# EAGLE library part MAX4377 (library keves)
IC AMP CURRENT DUAL 8-SOIC
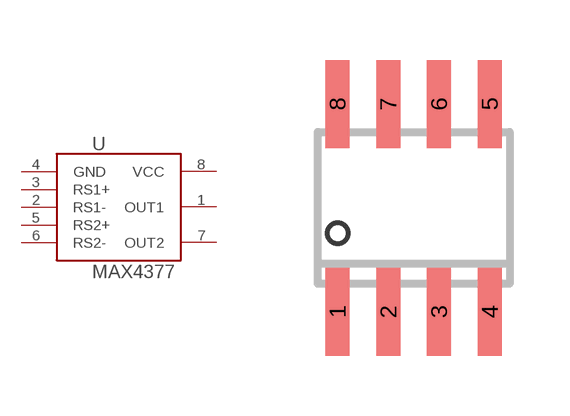
[diagram p19: symbol with the pads of SOIC8; footprint SOIC8]

Designator prefix -

## MAX4377  [SOIC8]
1  OUT1
2  RS1-
3  RS1+
4  GND
5  RS2+
6  RS2-
7  OUT2
8  VCC

## Footprint SOIC8 (pad centres in mm)
Small Outline IC
smd 0.6 x 2.2: 1 -1.905,-2.6; 2 -0.635,-2.6; 3 0.635,-2.6; 4 1.905,-2.6; 5 1.905,2.6; 6 0.635,2.6; 7 -0.635,2.6; 8 -1.905,2.6